# Altium schematic symbol library Oscillator_Fox_767-12-69.SchLib: 1 symbol
Pins are listed as number, name and electrical type; pins without a type are passive.

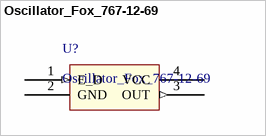
[diagram p0: symbol Oscillator_Fox_767-12-69]

## Oscillator_Fox_767-12-69
designator U?
FXO-HC536-12M,12 MHz, +/- 25 ppm,HCMOS,ceramic
pins: 1 E_D (in), 2 GND (power), 3 OUT (out), 4 VCC (power)